# EAGLE library part T__DUAL_N_MOSFET_ENHANCEMENT (library ..SMD)
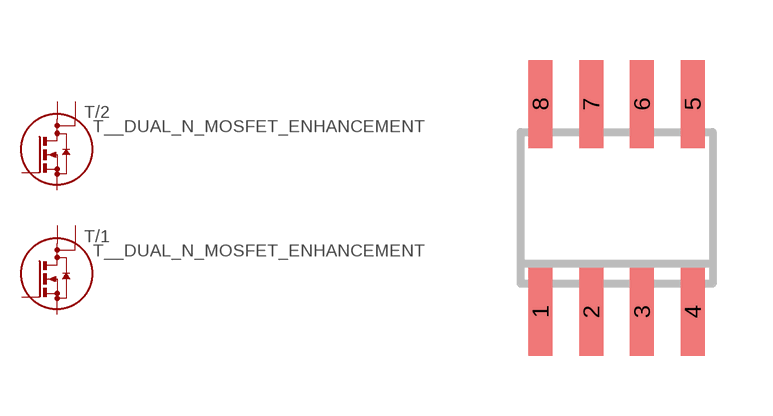
[diagram p3: symbol with the pads of SO08; footprint SO08]

Designator prefix T; gates /1=N_MOS_ENH_TWINDRAIN /2=N_MOS_ENH_TWINDRAIN

## T__DUAL_N_MOSFET_ENHANCEMENTSOT08  [SO08]
1  /1:S  pas
2  /1:G  pas
3  /2:S  pas
4  /2:G  pas
5  /2:D2  pas
6  /2:D  pas
7  /1:D2  pas
8  /1:D  pas

## Footprint SO08 (pad centres in mm)
Small Outline Package 8 NS Package M08A
smd 0.6 x 2.2: 1 -1.905,-2.6; 2 -0.635,-2.6; 3 0.635,-2.6; 4 1.905,-2.6; 5 1.905,2.6; 6 0.635,2.6; 7 -0.635,2.6; 8 -1.905,2.6